# EAGLE library part EPM7128-J84 (library Speccy)
EPM70128 MAX 7000 family
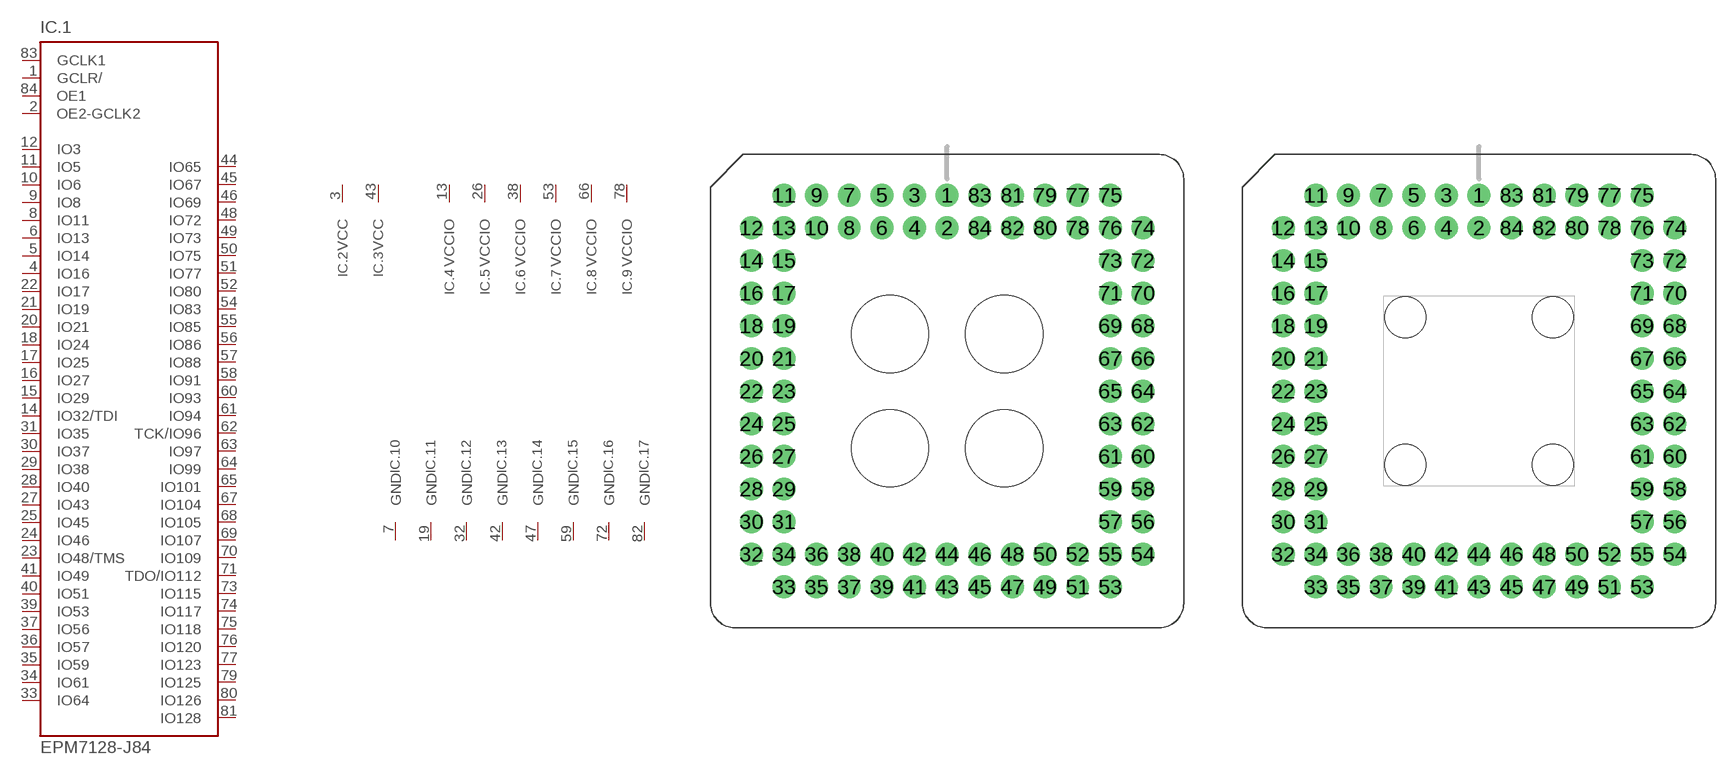
[diagram p3: symbol with the pads of PGA-84; footprints PGA-84, PGA-84-B]

Designator prefix IC; gates .1=7128-84 .2=VCC .3=VCC .4=VCCIO .5=VCCIO .6=VCCIO .7=VCCIO .8=VCCIO .9=VCCIO .10=GND .11=GND .12=GND .13=GND .14=GND .15=GND .16=GND .17=GND

## EPM7128-J84P  [PGA-84]
1  .1:GCLR/  in
2  .1:OE2-GCLK2  in
3  .2:VCC  pwr
4  .1:IO16
5  .1:IO14
6  .1:IO13
7  .10:GND  pwr
8  .1:IO11
9  .1:IO8
10  .1:IO6
11  .1:IO5
12  .1:IO3
13  .4:VCCIO  pwr
14  .1:IO32/TDI
15  .1:IO29
16  .1:IO27
17  .1:IO25
18  .1:IO24
19  .11:GND  pwr
20  .1:IO21
21  .1:IO19
22  .1:IO17
23  .1:IO48/TMS
24  .1:IO46
25  .1:IO45
26  .5:VCCIO  pwr
27  .1:IO43
28  .1:IO40
29  .1:IO38
30  .1:IO37
31  .1:IO35
32  .12:GND  pwr
33  .1:IO64
34  .1:IO61
35  .1:IO59
36  .1:IO57
37  .1:IO56
38  .6:VCCIO  pwr
39  .1:IO53
40  .1:IO51
41  .1:IO49
42  .13:GND  pwr
43  .3:VCC  pwr
44  .1:IO65
45  .1:IO67
46  .1:IO69
47  .14:GND  pwr
48  .1:IO72
49  .1:IO73
50  .1:IO75
51  .1:IO77
52  .1:IO80
53  .7:VCCIO  pwr
54  .1:IO83
55  .1:IO85
56  .1:IO86
57  .1:IO88
58  .1:IO91
59  .15:GND  pwr
60  .1:IO93
61  .1:IO94
62  .1:TCK/IO96
63  .1:IO97
64  .1:IO99
65  .1:IO101
66  .8:VCCIO  pwr
67  .1:IO104
68  .1:IO105
69  .1:IO107
70  .1:IO109
71  .1:TDO/IO112
72  .16:GND  pwr
73  .1:IO115
74  .1:IO117
75  .1:IO118
76  .1:IO120
77  .1:IO123
78  .9:VCCIO  pwr
79  .1:IO125
80  .1:IO126
81  .1:IO128
82  .17:GND  pwr
83  .1:GCLK1  in
84  .1:OE1  in

## EPM7128-J84  [PGA-84-B]
Pads as for PGA-84

## Footprint PGA-84 (pad centres in mm)
drill 0.8 pad 1.778: 1 0,15.24; 2 0,12.7; 3 -2.54,15.24; 4 -2.54,12.7; 5 -5.08,15.24; 6 -5.08,12.7; 7 -7.62,15.24; 8 -7.62,12.7; 9 -10.16,15.24; 10 -10.16,12.7; 11 -12.7,15.24; 12 -15.24,12.7; 13 -12.7,12.7; 14 -15.24,10.16; 15 -12.7,10.16; 16 -15.24,7.62; 17 -12.7,7.62; 18 -15.24,5.08; 19 -12.7,5.08; 20 -15.24,2.54; 21 -12.7,2.54; 22 -15.24,0; 23 -12.7,0; 24 -15.24,-2.54; 25 -12.7,-2.54; 26 -15.24,-5.08; 27 -12.7,-5.08; 28 -15.24,-7.62; 29 -12.7,-7.62; 30 -15.24,-10.16; 31 -12.7,-10.16; 32 -15.24,-12.7; 33 -12.7,-15.24; 34 -12.7,-12.7; 35 -10.16,-15.24; 36 -10.16,-12.7; 37 -7.62,-15.24; 38 -7.62,-12.7; 39 -5.08,-15.24; 40 -5.08,-12.7; 41 -2.54,-15.24; 42 -2.54,-12.7; 43 0,-15.24; 44 0,-12.7; 45 2.54,-15.24; 46 2.54,-12.7; 47 5.08,-15.24; 48 5.08,-12.7; 49 7.62,-15.24; 50 7.62,-12.7; 51 10.16,-15.24; 52 10.16,-12.7; 53 12.7,-15.24; 54 15.24,-12.7; 55 12.7,-12.7; 56 15.24,-10.16; 57 12.7,-10.16; 58 15.24,-7.62; 59 12.7,-7.62; 60 15.24,-5.08; 61 12.7,-5.08; 62 15.24,-2.54; 63 12.7,-2.54; 64 15.24,0; 65 12.7,0; 66 15.24,2.54; 67 12.7,2.54; 68 15.24,5.08; 69 12.7,5.08; 70 15.24,7.62; 71 12.7,7.62; 72 15.24,10.16; 73 12.7,10.16; 74 15.24,12.7; 75 12.7,15.24; 76 12.7,12.7; 77 10.16,15.24; 78 10.16,12.7; 79 7.62,15.24; 80 7.62,12.7; 81 5.08,15.24; 82 5.08,12.7; 83 2.54,15.24; 84 2.54,12.7
hole 6 at -4.445,4.445
hole 6 at 4.445,4.445
hole 6 at -4.445,-4.445
hole 6 at 4.445,-4.445

## Footprint PGA-84-B (pad centres in mm)
drill 0.8 pad 1.778: 1 0,15.24; 2 0,12.7; 3 -2.54,15.24; 4 -2.54,12.7; 5 -5.08,15.24; 6 -5.08,12.7; 7 -7.62,15.24; 8 -7.62,12.7; 9 -10.16,15.24; 10 -10.16,12.7; 11 -12.7,15.24; 12 -15.24,12.7; 13 -12.7,12.7; 14 -15.24,10.16; 15 -12.7,10.16; 16 -15.24,7.62; 17 -12.7,7.62; 18 -15.24,5.08; 19 -12.7,5.08; 20 -15.24,2.54; 21 -12.7,2.54; 22 -15.24,0; 23 -12.7,0; 24 -15.24,-2.54; 25 -12.7,-2.54; 26 -15.24,-5.08; 27 -12.7,-5.08; 28 -15.24,-7.62; 29 -12.7,-7.62; 30 -15.24,-10.16; 31 -12.7,-10.16; 32 -15.24,-12.7; 33 -12.7,-15.24; 34 -12.7,-12.7; 35 -10.16,-15.24; 36 -10.16,-12.7; 37 -7.62,-15.24; 38 -7.62,-12.7; 39 -5.08,-15.24; 40 -5.08,-12.7; 41 -2.54,-15.24; 42 -2.54,-12.7; 43 0,-15.24; 44 0,-12.7; 45 2.54,-15.24; 46 2.54,-12.7; 47 5.08,-15.24; 48 5.08,-12.7; 49 7.62,-15.24; 50 7.62,-12.7; 51 10.16,-15.24; 52 10.16,-12.7; 53 12.7,-15.24; 54 15.24,-12.7; 55 12.7,-12.7; 56 15.24,-10.16; 57 12.7,-10.16; 58 15.24,-7.62; 59 12.7,-7.62; 60 15.24,-5.08; 61 12.7,-5.08; 62 15.24,-2.54; 63 12.7,-2.54; 64 15.24,0; 65 12.7,0; 66 15.24,2.54; 67 12.7,2.54; 68 15.24,5.08; 69 12.7,5.08; 70 15.24,7.62; 71 12.7,7.62; 72 15.24,10.16; 73 12.7,10.16; 74 15.24,12.7; 75 12.7,15.24; 76 12.7,12.7; 77 10.16,15.24; 78 10.16,12.7; 79 7.62,15.24; 80 7.62,12.7; 81 5.08,15.24; 82 5.08,12.7; 83 2.54,15.24; 84 2.54,12.7
hole 3.2 at -5.745,5.745
hole 3.2 at 5.745,5.745
hole 3.2 at -5.745,-5.745
hole 3.2 at 5.745,-5.745